# Altium schematic symbol library DIODE,Schottky,200V,1A,SMD.Schlib: 1 symbol
Pins are listed as number, name and electrical type; pins without a type are passive.

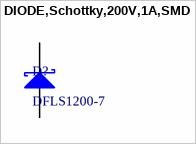
[diagram p0: symbol DIODE,Schottky,200V,1A,SMD]

## DIODE,Schottky,200V,1A,SMD
designator D?, comment DFLS1200-7
DIODE SCHOTTKY 200V POWERDI123
pins: 1 K, 2 A